# Altium footprint library SSD1306.PcbLib: 1 footprints
Each footprint in its own frame and in the unit in brackets; x right, y up, seen from the top. Pads: shape width x height; smd on the part's side, far side on the other; paste and mask are expansions set on the pad; w line width, h text height; cw(c..) or ccw(c..) is an arc to the next point about the centre after c.
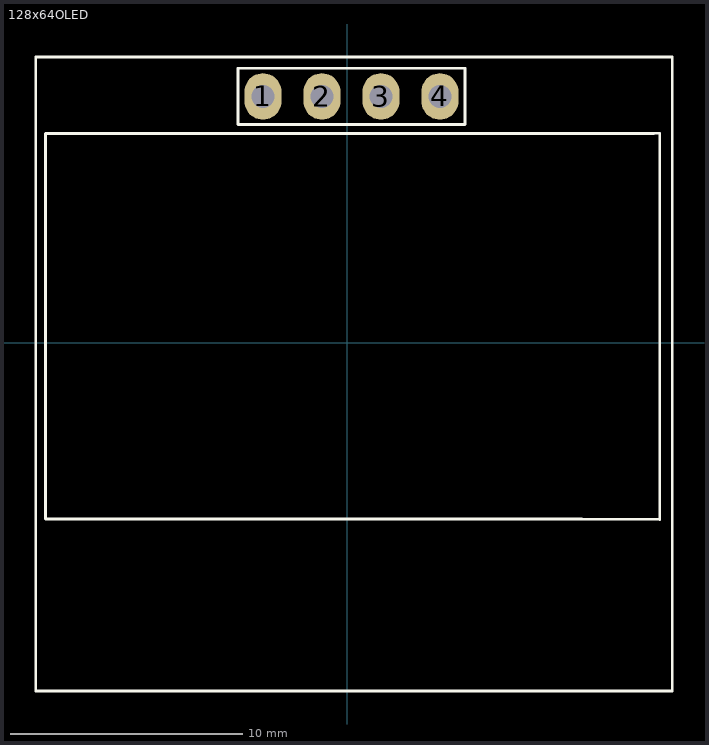
[diagram p0: the footprint, top view; thin cyan lines are the x and y axes]

## 128x64OLED [mm]
pads (4):
  rrect100% 1.6x2 hole 1: 1(-3.62,10.6) 2(-1.08,10.6) 3(1.46,10.6) 4(4,10.6)
F.SilkS:
  lines w0.12: -13.4,-15 -13.4,12.3 14,12.3 14,-15 -13.4,-15 ; -12.978,-7.595 -12.978,9.005 10.122,9.005 13.208,9.005 13.462,9.017 13.462,-7.62 10.122,-7.595 -12.978,-7.595 ; -4.699,9.398 -4.699,11.811 5.08,11.811 5.08,9.398 -4.699,9.398